# EAGLE library part AS-ITM-00212 (library tinycircuits)
MP3/WMA Codec IC - VS1003
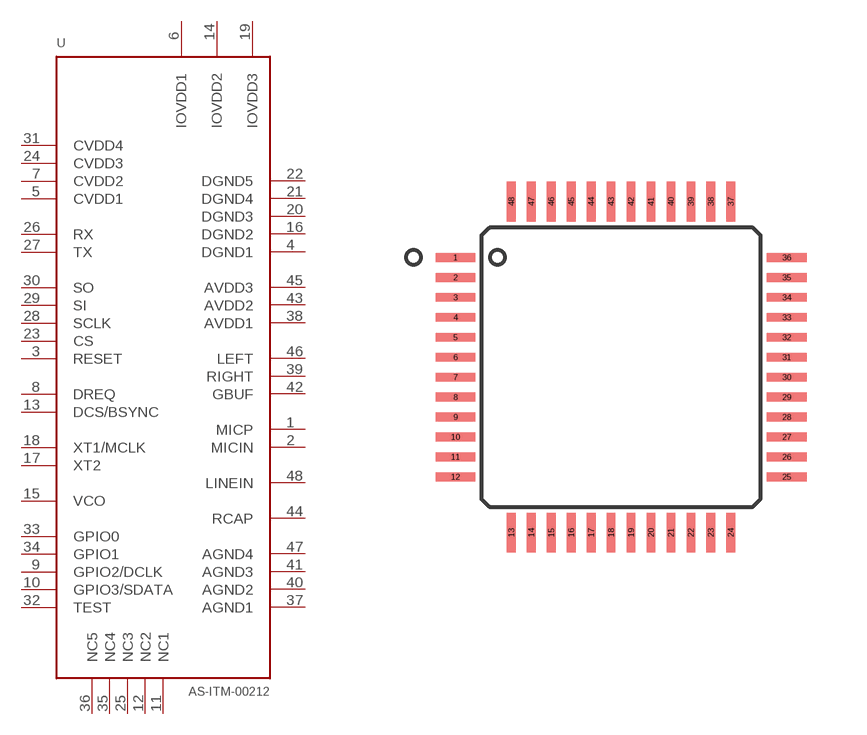
[diagram p89: symbol with the pads of LQFP(48); footprint LQFP(48)]

Designator prefix U

## AS-ITM-00212 (PARTNO: AS-ITM-00212; VALUE: VS1003)  [LQFP(48)]
1  MICP
2  MICIN
3  RESET
4  DGND1
5  CVDD1
6  IOVDD1
7  CVDD2
8  DREQ
9  GPIO2/DCLK
10  GPIO3/SDATA
11  NC1
12  NC2
13  DCS/BSYNC
14  IOVDD2
15  VCO
16  DGND2
17  XT2
18  XT1/MCLK
19  IOVDD3
20  DGND3
21  DGND4
22  DGND5
23  CS
24  CVDD3
25  NC3
26  RX
27  TX
28  SCLK
29  SI
30  SO
31  CVDD4
32  TEST
33  GPIO0
34  GPIO1
35  NC4
36  NC5
37  AGND1
38  AVDD1
39  RIGHT
40  AGND2
41  AGND3
42  GBUF
43  AVDD2
44  RCAP
45  AVDD3
46  LEFT
47  AGND4
48  LINEIN

## Footprint LQFP(48) (pad centres in mm)
smd 1 x 0.22: 1 -4.2,2.9; 2 -4.2,2.4; 3 -4.2,1.9; 4 -4.2,1.4; 5 -4.2,0.9; 6 -4.2,0.4; 7 -4.2,-0.1; 8 -4.2,-0.6; 9 -4.2,-1.1; 10 -4.2,-1.6; 11 -4.2,-2.1; 12 -4.2,-2.6; 25 4.1,-2.6; 26 4.1,-2.1; 27 4.1,-1.6; 28 4.1,-1.1; 29 4.1,-0.6; 30 4.1,-0.1; 31 4.1,0.4; 32 4.1,0.9; 33 4.1,1.4; 34 4.1,1.9; 35 4.1,2.4; 36 4.1,2.9
smd 0.22 x 1: 13 -2.8,-4; 14 -2.3,-4; 15 -1.8,-4; 16 -1.3,-4; 17 -0.8,-4; 18 -0.3,-4; 19 0.2,-4; 20 0.7,-4; 21 1.2,-4; 22 1.7,-4; 23 2.2,-4; 24 2.7,-4; 37 2.7,4.3; 38 2.2,4.3; 39 1.7,4.3; 40 1.2,4.3; 41 0.7,4.3; 42 0.2,4.3; 43 -0.3,4.3; 44 -0.8,4.3; 45 -1.3,4.3; 46 -1.8,4.3; 47 -2.3,4.3; 48 -2.8,4.3